# Altium schematic symbol library SCH - CONNECTORS - USB 3.0 TYPE A.SCHLIB: 1 symbol
Pins are listed as number, name and electrical type; pins without a type are passive.

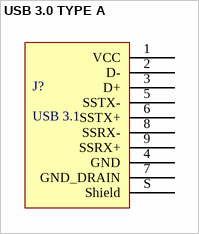
[diagram p0: symbol USB 3.0 TYPE A]

## USB 3.0 TYPE A
designator J?, comment USB 3.1
pins: 1 VCC, 2 D-, 3 D+, 4 GND, 5 SSTX-, 6 SSTX+, 7 GND_DRAIN, 8 SSRX-, 9 SSRX+, S Shield